# Altium schematic symbol library Sensor_Gas.SchLib: 15 symbols
Pins are listed as number, name and electrical type; pins without a type are passive.

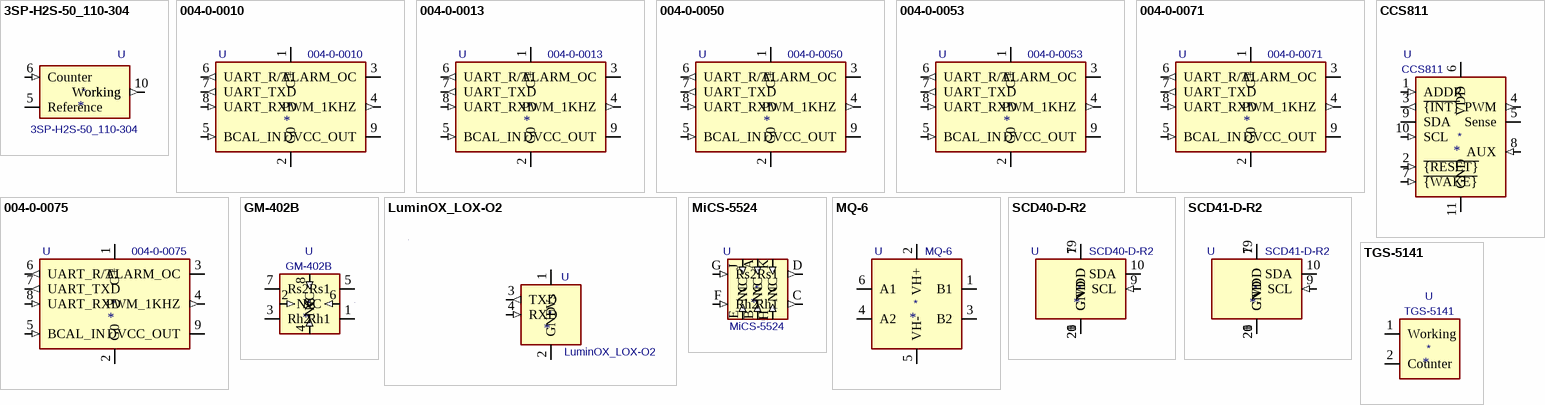
[diagram p0: symbols 3SP-H2S-50_110-304 to TGS-5141]

## 3SP-H2S-50_110-304
designator *  value 3SP-H2S-50_110-304  Reference: U
SPEC Sensors electrochemical H2S gas sensor; ki_keywords: H2S sensor; ki_fp_filters: SPEC*110*10Pin*; Footprint: Sensor:SPEC_110-xxx_SMD-10Pin_20x20mm_P4.0mm; Datasheet: https://www.spec-sensors.com/wp-content/uploads/2016/10/3SP_H2S_50-C-Package-110-304.pdf; Description_: SPEC Sensors electrochemical H2S gas sensor
pins: 1 Working (out), 5 Reference, 6 Counter (in), 10 Working (out)

## 004-0-0010
designator *  value 004-0-0010  Reference: U
S8 Commercial, CO2 sensor, 400-2000 PPM, 1kHz PWM output, Modbus, THT; ki_keywords: Senseair co2 gas sensor pwm modbus; ki_fp_filters: Senseair*S8*; Datasheet: https://rmtplusstoragesenseair.blob.core.windows.net/docs/publicerat/PSP103.pdf; Description_: S8 Commercial, CO2 sensor, 400-2000 PPM, 1kHz PWM output, Modbus, THT
pins: 1 G+ (power), 2 G0 (power), 3 ALARM_OC (oc), 4 PWM_1KHZ (out), 5 BCAL_IN (in), 6 UART_R/T (out), 7 UART_TXD (out), 8 UART_RXD (in), 9 DVCC_OUT (power)

## 004-0-0013
designator *  value 004-0-0013  Reference: U
S8 Residential, CO2 sensor, 400-2000 PPM, 1kHz PWM output, Modbus, THT; ki_keywords: Senseair co2 gas sensor pwm modbus; ki_fp_filters: Senseair*S8*; Datasheet: https://rmtplusstoragesenseair.blob.core.windows.net/docs/publicerat/PSP107.pdf; Description_: S8 Residential, CO2 sensor, 400-2000 PPM, 1kHz PWM output, Modbus, THT
pins: 1 G+ (power), 2 G0 (power), 3 ALARM_OC (oc), 4 PWM_1KHZ (out), 5 BCAL_IN (in), 6 UART_R/T (out), 7 UART_TXD (out), 8 UART_RXD (in), 9 DVCC_OUT (power)

## 004-0-0050
designator *  value 004-0-0050  Reference: U
S8 2%, CO2 sensor, 0.04-2% by volume, 1kHz PWM output, Modbus, THT; ki_keywords: Senseair co2 gas sensor pwm modbus; ki_fp_filters: Senseair*S8*; Datasheet: https://rmtplusstoragesenseair.blob.core.windows.net/docs/publicerat/PSP108.pdf; Description_: S8 2%, CO2 sensor, 0.04-2% by volume, 1kHz PWM output, Modbus, THT
pins: 1 G+ (power), 2 G0 (power), 3 ALARM_OC (oc), 4 PWM_1KHZ (out), 5 BCAL_IN (in), 6 UART_R/T (out), 7 UART_TXD (out), 8 UART_RXD (in), 9 DVCC_OUT (power)

## 004-0-0053
designator *  value 004-0-0053  Reference: U
S8 LP, CO2 sensor, 400-2000 PPM, 1kHz PWM output, Modbus, THT; ki_keywords: Senseair co2 gas sensor pwm modbus; ki_fp_filters: Senseair*S8*; Datasheet: https://rmtplusstoragesenseair.blob.core.windows.net/docs/publicerat/PSP126.pdf; Description_: S8 LP, CO2 sensor, 400-2000 PPM, 1kHz PWM output, Modbus, THT
pins: 1 G+ (power), 2 G0 (power), 3 ALARM_OC (oc), 4 PWM_1KHZ (out), 5 BCAL_IN (in), 6 UART_R/T (out), 7 UART_TXD (out), 8 UART_RXD (in), 9 DVCC_OUT (power)

## 004-0-0071
designator *  value 004-0-0071  Reference: U
S8 5%, CO2 sensor, 0.04-5% by volume, 1kHz PWM output, Modbus, THT; ki_keywords: Senseair co2 gas sensor pwm modbus; ki_fp_filters: Senseair*S8*; Datasheet: https://rmtplusstoragesenseair.blob.core.windows.net/docs/publicerat/PSP0113.pdf; Description_: S8 5%, CO2 sensor, 0.04-5% by volume, 1kHz PWM output, Modbus, THT
pins: 1 G+ (power), 2 G0 (power), 3 ALARM_OC (oc), 4 PWM_1KHZ (out), 5 BCAL_IN (in), 6 UART_R/T (out), 7 UART_TXD (out), 8 UART_RXD (in), 9 DVCC_OUT (power)

## 004-0-0075
designator *  value 004-0-0075  Reference: U
S8 Commercial, CO2 sensor, 400-2000 PPM, 1kHz PWM output, Modbus, THT; ki_keywords: Senseair co2 gas sensor pwm modbus; ki_fp_filters: Senseair*S8*; Datasheet: https://rmtplusstoragesenseair.blob.core.windows.net/docs/publicerat/PSP103.pdf; Description_: S8 Commercial, CO2 sensor, 400-2000 PPM, 1kHz PWM output, Modbus, THT
pins: 1 G+ (power), 2 G0 (power), 3 ALARM_OC (oc), 4 PWM_1KHZ (out), 5 BCAL_IN (in), 6 UART_R/T (out), 7 UART_TXD (out), 8 UART_RXD (in), 9 DVCC_OUT (power)

## CCS811
designator *  value CCS811  Reference: U
Ultra-low power digital gas sensor for monitoring indoor air quality; ki_keywords: metal oxide gas sensor MOX volatile organix comounds VOC I2C; ki_fp_filters: AMS?LGA*EP*2.7x4mm*P0.6mm*; Footprint: Package_LGA:AMS_LGA-10-1EP_2.7x4mm_P0.6mm; Datasheet: https://www.sciosense.com/wp-content/uploads/documents/SC-001232-DS-3-CCS811B-Datasheet-Revision-2.pdf; Description_: Ultra-low power digital gas sensor for monitoring indoor air quality
pins: 1 ADDR (in), 2 ~{{RESET}} (in), 3 ~{{INT}} (out), 4 PWM (out), 5 Sense (io), 6 VDD (power), 7 ~{{WAKE}} (in), 8 AUX (in), 9 SDA (io), 10 SCL (in), 11 GND (power)

## GM-402B
designator *  value GM-402B  Reference: U
MEMS Combustible Gas Sensor; ki_fp_filters: Winson?GM?402B*; Footprint: Sensor:Winson_GM-402B_5x5mm_P1.27mm; Datasheet: https://www.winsen-sensor.com/d/files/me2/mems--gm-402b--manual-v1_1.pdf; Description_: MEMS Combustible Gas Sensor; ki_keywords: gas sensor
pins: 1 Rh1, 2 NC (in), 3 Rh2, 4 NC (in), 5 Rs1, 6 NC (in), 7 Rs2, 8 NC (in)

## LuminOX_LOX-O2
designator *  value LuminOX_LOX-O2  Reference: U
SST LuminOX Luminescence-based O2 sensor; ki_fp_filters: LuminOX?LOX?O2*; Footprint: Sensor:LuminOX_LOX-O2; Datasheet: https://sstsensing.com/wp-content/uploads/2021/08/DS0030rev15_LuminOx.pdf; Description_: SST LuminOX Luminescence-based O2 sensor; ki_keywords: O2 sensor
pins: 1 Vs (power), 2 GND (power), 3 TXD (out), 4 RXD (in)

## MiCS-5524
designator *  value MiCS-5524  Reference: U
Compact MOS CO sensor; ki_fp_filters: Sensortech?MiCS?5x7mm*P1.25mm*; Footprint: Sensor:Sensortech_MiCS_5x7mm_P1.25mm; Datasheet: https://www.sgxsensortech.com/content/uploads/2014/07/1084_Datasheet-MiCS-5524-rev-8.pdf; Description_: Compact MOS CO sensor; ki_keywords: CO sensor
pins: A NC (in), B NC (in), C Rh1 (out), D Rs1 (out), E NC (in), F Rh2 (in), G Rs2 (in), H NC (in), J NC (in), K NC (in)

## MQ-6
designator *  value MQ-6  Reference: U
Semiconductor Sensor for Flammable Gas; ki_keywords: flammable gas sensor LPG; ki_fp_filters: *MQ*6*; Footprint: Sensor:MQ-6; Datasheet: https://www.winsen-sensor.com/d/files/semiconductor/mq-6.pdf; Description_: Semiconductor Sensor for Flammable Gas
pins: 1 B1, 2 VH+ (power), 3 B2, 4 A2, 5 VH- (power), 6 A1

## SCD40-D-R2
designator *  value SCD40-D-R2  Reference: U
Photoacoustic CO2 sensor, 40 000 ppm, I2C, 2.4-5.5 V, Base accuracy  400 - 2000 ppm; ki_keywords: CO2 sensor I2C; ki_fp_filters: Sensirion*SCD4?*; Footprint: Sensor:Sensirion_SCD4x-1EP_10.1x10.1mm_P1.25mm_EP4.8x4.8mm; Datasheet: https://sensirion.com/media/documents/E0F04247/631EF271/CD_DS_SCD40_SCD41_Datasheet_D1.pdf; Description_: Photoacoustic CO2 sensor, 40 000 ppm, I2C, 2.4-5.5 V, Base accuracy  400 - 2000 ppm
pins: 6 GND (power), 7 VDD (power), 9 SCL (in), 10 SDA (io), 19 VDD, 20 GND, 21 GND

## SCD41-D-R2
designator *  value SCD41-D-R2  Reference: U
Photoacoustic CO2 sensor, 40 000 ppm, I2C, 2.4-5.5 V, High accuracy  400 - 5000 ppm; ki_keywords: CO2 sensor I2C; ki_fp_filters: Sensirion*SCD4?*; Footprint: Sensor:Sensirion_SCD4x-1EP_10.1x10.1mm_P1.25mm_EP4.8x4.8mm; Datasheet: https://sensirion.com/media/documents/E0F04247/631EF271/CD_DS_SCD40_SCD41_Datasheet_D1.pdf; Description_: Photoacoustic CO2 sensor, 40 000 ppm, I2C, 2.4-5.5 V, High accuracy  400 - 5000 ppm
pins: 6 GND (power), 7 VDD (power), 9 SCL (in), 10 SDA (io), 19 VDD, 20 GND, 21 GND

## TGS-5141
designator *  value TGS-5141  Reference: U
Figaro Carbon Monoxide sensor; ki_keywords: CO sensor; ki_fp_filters: TGS?5141*; Footprint: Sensor:TGS-5141; Datasheet: https://figarosensor.com/product/docs/tgs5141-p00_product%20infomation%28fusa%29_rev07.pdf; Description_: Figaro Carbon Monoxide sensor
pins: 1 Working, 2 Counter